# Altium integrated library MBRS540T3G.IntLib: 1 symbol
Pins are listed as number, name and electrical type; pins without a type are passive.

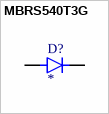
[diagram p0: symbol MBRS540T3G]

## MBRS540T3G
designator D?
Diode Schottky 40 V 5A Surface Mount SMC; MF: ON Semiconductor; MP: MBRS540T3G; SnapEDA_Link: https://www.snapeda.com/parts/MBRS540T3G/Onsemi/view-part/?ref=snap; Package: SMC-2 ON Semiconductor; Value: *; Check_prices: https://www.snapeda.com/parts/MBRS540T3G/Onsemi/view-part/?ref=eda
footprint DIOM7959X261N
pins: 1 C, 2 A